# Altium footprint library usb.PcbLib: 2 footprints
Each footprint in its own frame and in the unit in brackets; x right, y up, seen from the top. Pads: shape width x height; smd on the part's side, far side on the other; paste and mask are expansions set on the pad; w line width, h text height; cw(c..) or ccw(c..) is an arc to the next point about the centre after c.
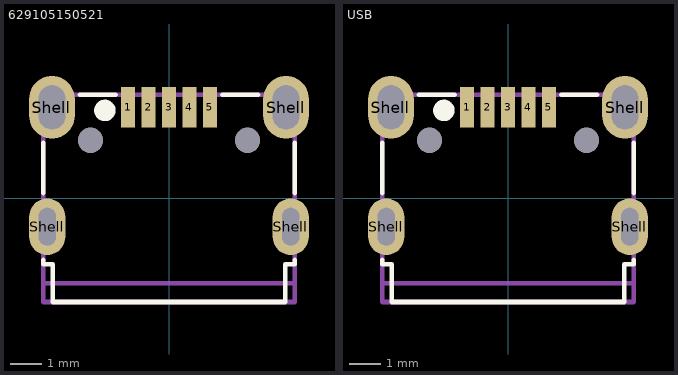
[diagram p0: the footprints below, top view; thin cyan lines are the x and y axes]

## 629105150521 [mm] "Micro USB 2.0 SMT Type B Horizontal 5 Contacts High Current"
height 2.66
pads (11):
  rect 0.45x1.3 smd: 1(-1.3,2.9) 2(-0.65,2.9) 3(0,2.9) 4(0.65,2.9) 5(1.3,2.9)
  oval 1.15x1.8 hole 0.55 slot 1.2 at 90 deg: Shell(-3.875,-0.9) Shell(3.875,-0.9)
  oval 1.45x2 hole 0.85 slot 1.4 at 90 deg: Shell(-3.725,2.9) Shell(3.725,2.9)
  round 0.8 hole 0.8 unplated: ""(-2.5,1.85) ""(2.5,1.85)
Top Overlay:
  circle w0.4: c-2.041,2.8 r0.141
  lines w0.15: -4,-1.96 -4,-2.1 -3.7,-2.1 -3.7,-3.3 3.7,-3.3 3.7,-2.1 4,-2.1 4,-1.96 ; -4,0.17 -4,1.77 ; -2.83,3.3 -1.7,3.3 ; 1.7,3.3 2.83,3.3 ; 4,0.17 4,1.77
Mechanical 13:
  lines w0.15: -4,-3.3 -4,3.3 4,3.3 4,-3.3 -4,-3.3
Mechanical 15:
  lines w0.15: -4,-2.7 4,-2.7
  text "PCB Edge" at -1.9,-2.4 h1
3D body "Download_STP_629105150521.stp": height 1.61, standoff -1.95, extent -4,-3.3 4,3.303

## USB [mm] "Micro USB 2.0 SMT Type B Horizontal 5 Contacts High Current"
height 2.66
pads (11):
  rect 0.45x1.3 smd: 1(-1.3,2.9) 2(-0.65,2.9) 3(0,2.9) 4(0.65,2.9) 5(1.3,2.9)
  oval 1.15x1.8 hole 0.55 slot 1.2 at 90 deg: Shell(-3.875,-0.9) Shell(3.875,-0.9)
  oval 1.45x2 hole 0.85 slot 1.4 at 90 deg: Shell(-3.725,2.9) Shell(3.725,2.9)
  round 0.8 hole 0.8 unplated: ""(-2.5,1.85) ""(2.5,1.85)
Top Overlay:
  circle w0.4: c-2.041,2.8 r0.141
  lines w0.15: -4,-1.96 -4,-2.1 -3.7,-2.1 -3.7,-3.3 3.7,-3.3 3.7,-2.1 4,-2.1 4,-1.96 ; -4,0.17 -4,1.77 ; -2.83,3.3 -1.7,3.3 ; 1.7,3.3 2.83,3.3 ; 4,0.17 4,1.77
Mechanical 13:
  lines w0.15: -4,-3.3 -4,3.3 4,3.3 4,-3.3 -4,-3.3
Mechanical 15:
  lines w0.15: -4,-2.7 4,-2.7
  text "PCB Edge" at -1.9,-2.4 h1
3D body "Download_STP_629105150521.stp": height 1.61, standoff -1.95, extent -4,-3.3 4,3.303